# Altium schematic symbol library oscilator.SchLib: 18 symbols
Pins are listed as number, name and electrical type; pins without a type are passive.

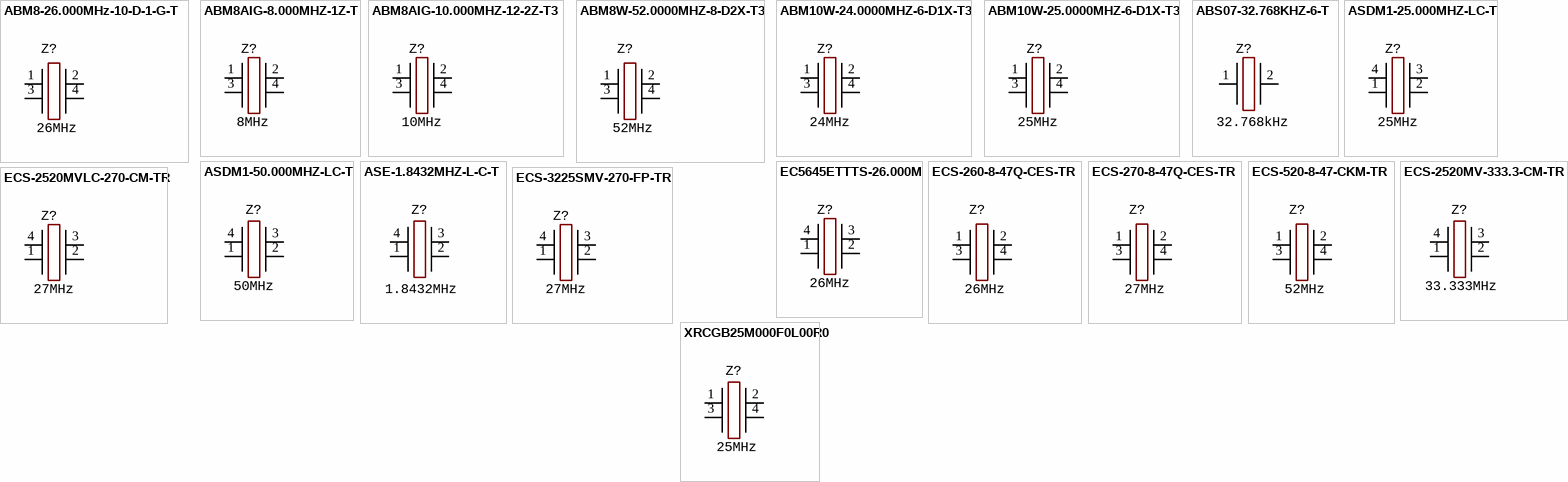
[diagram p0: symbols ABM8-26.000MHz-10-D-1-G-T to XRCGB25M000F0L00R0]

## ABM8-26.000MHz-10-D-1-G-T
designator Z?, comment 26MHz
Crystal, 26 MHz, 10pF, case 3225, ±15ppm, -40...+125°C; PartNumber: ABM8-26.000MHz-10-D-1-G-T; Manufacturer: Abracon; Package: 3225; HelpURL: https://eu.mouser.com/ProductDetail/ABRACON/ABM8-26.000MHz-10-D-1-G-T?qs=vLWxofP3U2zgOkaWgKdFWA%3D%3D
footprint OSC: 3225
pins: 1, 2, 3, 4

## ABM8AIG-8.000MHZ-1Z-T
designator Z?, comment 8MHz
Crystal, 8 MHz, 18pF, case 3225, ±25ppm, -40...+125°C; PartNumber: ABM8AIG-8.000MHZ-1Z-T; Manufacturer: Abracon; HelpURL: https://eu.mouser.com/ProductDetail/ABRACON/ABM8AIG-8.000MHZ-1Z-T?qs=uwxL4vQweFM9%2FeRu4wQgCQ%3D%3D; Package: 3225
footprint OSC: 3225
pins: 1, 2, 3, 4

## ABM8AIG-10.000MHZ-12-2Z-T3
designator Z?, comment 10MHz
Crystal, 10 MHz, 12pF, case 3225, ±25ppm, -40...+125°C; PartNumber: ABM8AIG-10.000MHZ-12-2Z-T3; Manufacturer: Abracon; HelpURL: https://eu.mouser.com/ProductDetail/ABRACON/ABM8AIG-10.000MHZ-12-2Z-T3?qs=gG6m684uYP6Z2e%2FlrxypJQ%3D%3D; Package: 3225
footprint OSC: 3225
pins: 1, 2, 3, 4

## ABM8W-52.0000MHZ-8-D2X-T3
designator Z?, comment 52MHz
Crystal, 52 MHz, 8pF, case 3225, ±10ppm, -20...+70°C; PartNumber: ABM8W-52.0000MHZ-8-D2X-T3; Manufacturer: Abracon; Package: 3225; HelpURL: https://eu.mouser.com/ProductDetail/ABRACON/ABM8W-52.0000MHZ-8-D2X-T3?qs=5aG0NVq1C4xV1s7X5SUAGA%3D%3D
footprint OSC: 3225
pins: 1, 2, 3, 4

## ABM10W-24.0000MHZ-6-D1X-T3
designator Z?, comment 24MHz
Crystal, 24 MHz, 6pF, case 2520, ±50ppm, -40...+85°C; PartNumber: ABM10W-24.0000MHZ-6-D1X-T3; Manufacturer: Abracon; HelpURL: https://ru.mouser.com/ProductDetail/ABRACON/ABM10W-240000MHZ-6-D1X-T3?qs=5aG0NVq1C4wR2z9jOnDVlg%3D%3D; Package: 2520
footprint OSC: 2520
pins: 1, 2, 3, 4

## ABM10W-25.0000MHZ-6-D1X-T3
designator Z?, comment 25MHz
Crystal, 25 MHz, 6pF, case 2520, ±50ppm, -40...+85°C; Manufacturer: Abracon; PartNumber: ABM10W-25.0000MHZ-6-D1X-T3; HelpURL: https://ru.mouser.com/ProductDetail/ABRACON/ABM10W-250000MHZ-6-D1X-T3?qs=5aG0NVq1C4zdufjUgWRwWQ%3D%3D; Package: 2520
footprint OSC: 2520
pins: 1, 2, 3, 4

## ABS07-32.768KHZ-6-T
designator Z?, comment 32.768kHz
Crystal, 32.768 kHz, 6pF, case 3215, ±20ppm, -40...+85°C; PartNumber: ABS07-32.768KHZ-6-T; Manufacturer: Abracon; Package: 3215; HelpURL: https://ru.mouser.com/ProductDetail/ABRACON/ABS07-32768KHZ-6-T?qs=Pyu0ZBy%2FIJYqrd93qMRCiw%3D%3D
footprint OSC: 3215
pins: 1, 2

## ASDM1-25.000MHZ-LC-T
designator Z?, comment 25MHz
Oscillator, 25MHz, ±50ppm, case 2520, supply 1.8...3.3V, -40...+70°C; PartNumber: ASDM1-25.000MHZ-LC-T; Manufacturer: Abracon LLC; Package: 2520; HelpURL: https://ru.mouser.com/ProductDetail/ABRACON/ASDM1-25000MHZ-LC-T?qs=K8BHR703ZXhd3IKaxiDDbg%3D%3D
footprint OSC: 2520
pins: 1, 2, 3, 4

## ASDM1-50.000MHZ-LC-T
designator Z?, comment 50MHz
Oscillator, 50 MHz, supply 1.8...3.3V, case 2520, ±50ppm, -40...+85°C; Manufacturer: Abracon; PartNumber: ASDM1-50.000MHZ-LC-T; Package: 2520; HelpURL: https://ru.mouser.com/ProductDetail/ABRACON/ASDM1-50000MHZ-LC-T?qs=K8BHR703ZXjEXBCri6hjOg%3D%3D
footprint OSC: 2520
pins: 1, 2, 3, 4

## ASE-1.8432MHZ-L-C-T
designator Z?, comment 1.8432MHz
Oscillator, 1.8432MHz, ±50ppm, case 3225, supply 3.135...3.465V, -40...+85°C; PartNumber: ASE-1.8432MHZ-L-C-T; Manufacturer: Abracon LLC; HelpURL: https://ru.mouser.com/ProductDetail/ABRACON/ASDM1-25000MHZ-LC-T?qs=K8BHR703ZXhd3IKaxiDDbg%3D%3D; Package: 3225
footprint OSC: 3225
pins: 1, 2, 3, 4

## EC5645ETTTS-26.000M
designator Z?, comment 26MHz
Oscillator, 26MHz, ±50ppm, case 2520, supply 2.97...3.63V, -40...+85EC5645ETTTS-26.000M°C; Manufacturer: Abracon; Package: 2520; PartNumber: EC5645ETTTS-26.000M; HelpURL: https://eu.mouser.com/ProductDetail/Ecliptek-Abracon/EC5645ETTTS-26.000M-TR?qs=f9yNj16SXrKNyW5KotVlAA%3D%3D
footprint OSC: 2520
pins: 1, 2, 3, 4

## ECS-260-8-47Q-CES-TR
designator Z?, comment 26MHz
Crystal, 26 MHz, 8pF, case 1612, ±50ppm, -40...+125°C; PartNumber: ECS-260-8-47Q-CES-TR; Manufacturer: ECS; Package: 1612; HelpURL: https://eu.mouser.com/ProductDetail/ECS/ECS-260-8-47Q-CES-TR?qs=qSfuJ%252Bfl%2Fd7rIwkjy6zgkw%3D%3D
footprint OSC: 1612
pins: 1, 2, 3, 4

## ECS-270-8-47Q-CES-TR
designator Z?, comment 27MHz
Crystal, 27 MHz, 8pF, case 1612, ±50ppm, -40...+125°C; PartNumber: ECS-270-8-47Q-CES-TR; Manufacturer: ECS; Package: 1612; HelpURL: https://eu.mouser.com/ProductDetail/ECS/ECS-270-8-47Q-CES-TR?qs=qSfuJ%252Bfl%2Fd7ig7adwTnJKg%3D%3D
footprint OSC: 1612
pins: 1, 2, 3, 4

## ECS-520-8-47-CKM-TR
designator Z?, comment 52MHz
Crystal, 52 MHz, 10pF, case 1612, ±10ppm, -20...+70°C; PartNumber: ECS-520-8-47-CKM-TR; Manufacturer: ECS; Package: 1612; HelpURL: https://eu.mouser.com/ProductDetail/ECS/ECS-520-8-47-CKM-TR?qs=wd5RIQLrsJgvya8fwNvT2w%3D%3D
footprint OSC: 1612
pins: 1, 2, 3, 4

## ECS-2520MV-333.3-CM-TR
designator Z?, comment 33.333MHz
Oscillator, 33.333 MHz, supply 1.6...3.6V, case 2520, ±50ppm, -20...+70°C; Manufacturer: ECS; PartNumber: ECS-2520MV-333.3-CM-TR; Package: 2520; HelpURL: https://eu.mouser.com/ProductDetail/ECS/ECS-2520MV-333.3-CM-TR?qs=vvQtp7zwQdNqhhe%2FJdewAA%3D%3D
footprint OSC: 2520
pins: 1, 2, 3, 4

## ECS-2520MVLC-270-CM-TR
designator Z?, comment 27MHz
Oscillator, 27MHz, ±25ppm, case 2520, supply 1.6...3.6V, -20...+70°C; PartNumber: ECS-2520MVLC-270-CM-TR; Manufacturer: ECS; Package: 2520; HelpURL: https://eu.mouser.com/ProductDetail/ECS/ECS-2520MVLC-270-CM-TR?qs=vvQtp7zwQdMxLCFmp9ItwA%3D%3D
footprint OSC: 2520
pins: 1, 2, 3, 4

## ECS-3225SMV-270-FP-TR
designator Z?, comment 27MHz
Oscillator, 27MHz, ±25ppm, case 3225, supply 1.6...3.6V, -20...+70°C; PartNumber: ECS-3225SMV-270-FP-TR; Manufacturer: ECS; Package: 3225; HelpURL: https://eu.mouser.com/ProductDetail/ECS/ECS-3225SMV-270-FP-TR?qs=%252B6g0mu59x7Lmjx1iqIDPSQ%3D%3D
footprint OSC: 3225
pins: 1, 2, 3, 4

## XRCGB25M000F0L00R0
designator Z?, comment 25MHz
Crystal, 25 MHz, 6pF, case 2016, ±50ppm, -30...+85°C; PartNumber: XRCGB25M000F0L00R0; Manufacturer: Murata Electronics; Package: 2016; HelpURL: https://ru.mouser.com/ProductDetail/Murata-Electronics/XRCGB25M000F0L00R0?qs=%2Fha2pyFaduhIQ5mY12ml2BcW2GkQ8ePvY5H5KszLkAV3SqPhlFLKBP8uvguIoPUq
footprint OSC: 2016
pins: 1, 2, 3, 4